# Altium footprint library Passive.PcbLib: 87 footprints (part 5 of 6)
Each footprint in its own frame and in the unit in brackets; x right, y up, seen from the top. Pads: shape width x height; smd on the part's side, far side on the other; paste and mask are expansions set on the pad; w line width, h text height; cw(c..) or ccw(c..) is an arc to the next point about the centre after c.
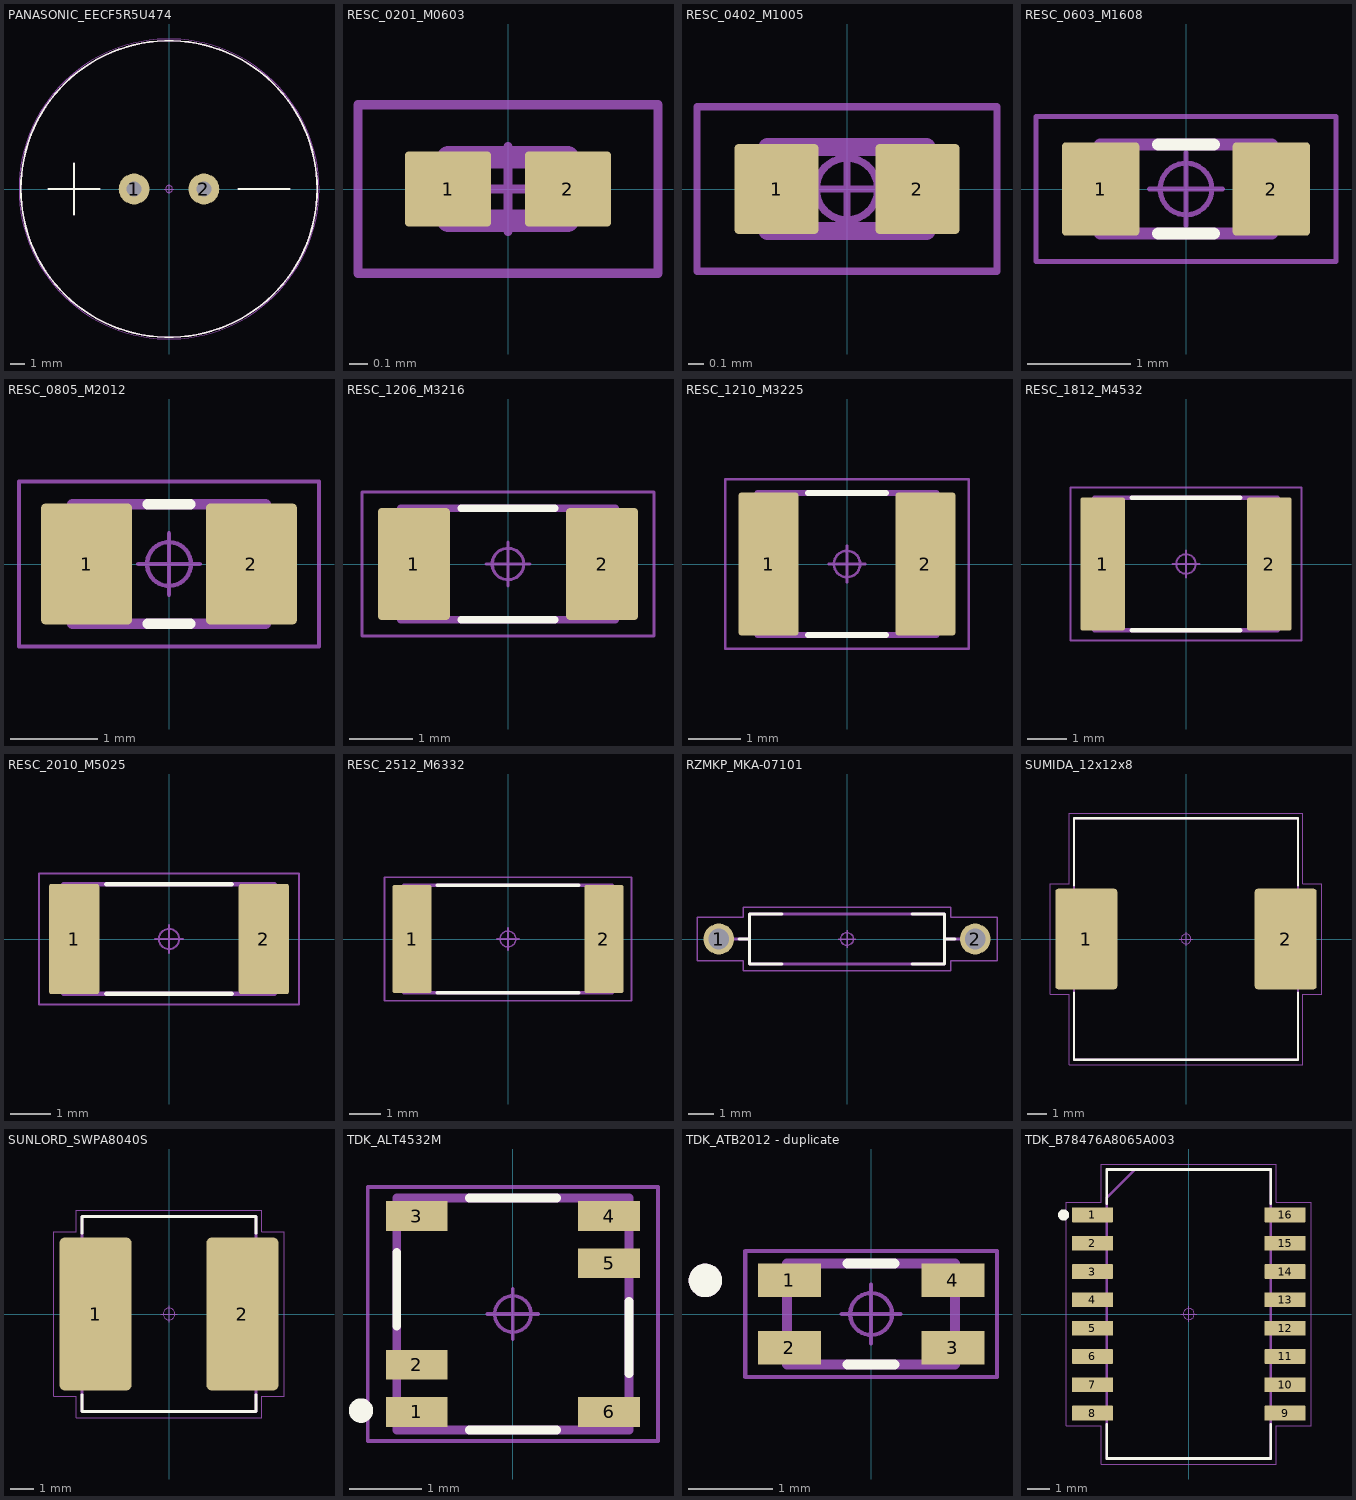
[diagram p4: the footprints below, top view; thin cyan lines are the x and y axes]

## PANASONIC_EECF5R5U474 [mm] "Panasonic Supercap"
pads (2):
  round 2.2 hole 1.1: 1(-2.5,0) 2(2.5,0)
Top Overlay:
  circle w0.12: c0,0 r10.6
  lines w0.12: -8.636,0 -4.953,0 ; -6.794,-1.841 -6.794,1.841 ; 4.953,0 8.636,0
Mechanical 11:
  circle w0.12: c0,0 r10.6
  lines w0.12: -8.636,0 -4.953,0 ; -6.794,-1.841 -6.794,1.841 ; 4.953,0 8.636,0
  text ".Designator" at -4.506,-0.452 h2
Mechanical 15:
  circle w0.05: c0,0 r0.25
  circle w0.05: c0,0 r10.725
  lines w0.05: -0.35,0 0.35,0 ; 0,-0.35 0,0.35
3D body "User Library-Ionistor.STEP": height 8.01, standoff -6, extent -10.75,-10.75 10.76,10.75

## RESC_0201_M0603 [mm] "Resistor, Chip; 0.60 mm L X 0.30 mm W X 0.26 mm H body"
pads (2):
  rrect10% 0.46x0.4 smd: 1(-0.32,0) 2(0.32,0)
Mechanical 11:
  lines w0.12: -0.32,-0.17 -0.32,0.17 0.32,0.17 0.32,-0.17 -0.32,-0.17
  text ".Designator" at -0.911,-0.112 h0.5
Mechanical 15:
  circle w0.05: c0,0 r0.169
  lines w0.05: -0.225,0 0.225,0 ; 0,-0.225 0,0.225 ; -0.8,-0.45 -0.8,0.45 0.8,0.45 0.8,-0.45 -0.8,-0.45
3D body "RESC_0201_M0603.STEP": height 0.26, standoff 0, extent -0.315,-0.165 0.315,0.165

## RESC_0402_M1005 [mm] "Resistor, Chip; 1.00 mm L X 0.50 mm W X 0.40 mm H body"
pads (2):
  rrect10% 0.56x0.6 smd: 1(-0.47,0) 2(0.47,0)
Mechanical 11:
  lines w0.12: -0.53,-0.28 -0.53,0.28 0.53,0.28 0.53,-0.28 -0.53,-0.28
  text ".Designator" at -1.274,-0.156 h0.7
Mechanical 15:
  circle w0.05: c0,0 r0.206
  lines w0.05: -0.275,0 0.275,0 ; 0,-0.275 0,0.275 ; -1,-0.55 -1,0.55 1,0.55 1,-0.55 -1,-0.55
3D body "RESC_0402_M1005.STEP": height 0.4, standoff 0, extent -0.525,-0.275 0.525,0.275

## RESC_0603_M1608 [mm] "Resistor, Chip; 1.60 mm L X 0.80 mm W X 0.45 mm H body"
pads (2):
  rrect10% 0.75x0.9 smd: 1(-0.825,0) 2(0.825,0)
Top Overlay:
  lines w0.12: -0.27,-0.43 0.27,-0.43 ; -0.27,0.43 0.27,0.43
Mechanical 11:
  lines w0.12: -0.83,-0.43 0.83,-0.43 0.83,0.43 -0.83,0.43 -0.83,-0.43
  text ".Designator" at -1.822,-0.223 h1
Mechanical 15:
  circle w0.05: c0,0 r0.25
  lines w0.05: -0.35,0 0.35,0 ; 0,-0.35 0,0.35 ; -1.45,-0.7 1.45,-0.7 1.45,0.7 -1.45,0.7 -1.45,-0.7
3D body "RESC_0603_M1608.STEP": height 0.45, standoff 0, extent -0.825,-0.425 0.825,0.425

## RESC_0805_M2012 [mm] "Resistor, Chip; 2.00 mm L X 1.25 mm W X 0.70 mm H body"
pads (2):
  rrect10% 1.04x1.38 smd: 1(-0.94,0) 2(0.94,0)
Top Overlay:
  lines w0.12: -0.24,-0.68 0.24,-0.68 ; -0.24,0.68 0.24,0.68
Mechanical 11:
  lines w0.12: -1.1,-0.68 -1.1,0.68 1.1,0.68 1.1,-0.68 -1.1,-0.68
  text ".Designator" at -1.822,-0.223 h1
Mechanical 15:
  circle w0.05: c0,0 r0.25
  lines w0.05: -0.35,0 0.35,0 ; 0,-0.35 0,0.35 ; -1.71,-0.94 -1.71,0.94 1.71,0.94 1.71,-0.94 -1.71,-0.94
3D body "RESC_0805_M2012.STEP": height 0.7, standoff 0, extent -1.1,-0.675 1.1,0.675

## RESC_1206_M3216 [mm] "Resistor, Chip; 3.20 mm L X 1.60 mm W X 0.70 mm H body"
pads (2):
  rrect10% 1.14x1.77 smd: 1(-1.49,0) 2(1.49,0)
Top Overlay:
  lines w0.12: -0.74,-0.88 0.74,-0.88 ; -0.74,0.88 0.74,0.88
Mechanical 11:
  lines w0.12: -1.7,-0.88 1.7,-0.88 1.7,0.88 -1.7,0.88 -1.7,-0.88
  text ".Designator" at -1.822,-0.223 h1
Mechanical 15:
  circle w0.05: c0,0 r0.25
  lines w0.05: -0.35,0 0.35,0 ; 0,-0.35 0,0.35 ; -2.31,-1.14 2.31,-1.14 2.31,1.14 -2.31,1.14 -2.31,-1.14
3D body "RESC_1206_M3216.STEP": height 0.7, standoff 0, extent -1.7,-0.875 1.7,0.875

## RESC_1210_M3225 [mm] "Resistor, Chip; 3.20 mm L X 2.50 mm W X 0.70 mm H body"
pads (2):
  rrect10% 1.14x2.72 smd: 1(-1.49,0) 2(1.49,0)
Top Overlay:
  lines w0.12: -0.74,-1.35 0.74,-1.35 ; -0.74,1.35 0.74,1.35
Mechanical 11:
  lines w0.12: -1.7,-1.35 1.7,-1.35 1.7,1.35 -1.7,1.35 -1.7,-1.35
  text ".Designator" at -2.733,-0.335 h1.5
Mechanical 15:
  circle w0.05: c0,0 r0.25
  lines w0.05: -0.35,0 0.35,0 ; 0,-0.35 0,0.35 ; -2.31,-1.61 2.31,-1.61 2.31,1.61 -2.31,1.61 -2.31,-1.61
3D body "RESC_1210_M3225.STEP": height 0.7, standoff 0, extent -1.7,-1.35 1.7,1.35

## RESC_1812_M4532 [mm] "Resistor, Chip; 4.50 mm L X 3.20 mm W X 0.70 mm H body"
pads (2):
  rrect10% 1.14x3.42 smd: 1(-2.14,0) 2(2.14,0)
Top Overlay:
  lines w0.12: -1.39,-1.7 1.39,-1.7 ; -1.39,1.7 1.39,1.7
Mechanical 11:
  lines w0.12: -2.35,-1.7 -2.35,1.7 2.35,1.7 2.35,-1.7 -2.35,-1.7
  text ".Designator" at -3.643,-0.446 h2
Mechanical 15:
  circle w0.05: c0,0 r0.25
  lines w0.05: -0.35,0 0.35,0 ; 0,-0.35 0,0.35 ; -2.96,-1.96 -2.96,1.96 2.96,1.96 2.96,-1.96 -2.96,-1.96
3D body "RESC_1812_M4532.STEP": height 0.7, standoff 0, extent -2.35,-1.7 2.35,1.7

## RESC_2010_M5025 [mm] "Resistor, Chip; 5.00 mm L X 2.50 mm W X 0.70 mm H body"
pads (2):
  rrect10% 1.24x2.72 smd: 1(-2.34,0) 2(2.34,0)
Top Overlay:
  lines w0.12: -1.54,-1.35 1.54,-1.35 ; -1.54,1.35 1.54,1.35
Mechanical 11:
  lines w0.12: -2.6,-1.35 -2.6,1.35 2.6,1.35 2.6,-1.35 -2.6,-1.35
  text ".Designator" at -3.643,-0.446 h2
Mechanical 15:
  circle w0.05: c0,0 r0.25
  lines w0.05: -0.35,0 0.35,0 ; 0,-0.35 0,0.35 ; -3.21,-1.61 -3.21,1.61 3.21,1.61 3.21,-1.61 -3.21,-1.61
3D body "RESC_2010_M5025.STEP": height 0.7, standoff 0, extent -2.6,-1.35 2.6,1.35

## RESC_2512_M6332 [mm] "Resistor, Chip; 6.40 mm L X 3.20 mm W X 0.70 mm H body"
pads (2):
  rrect10% 1.24x3.42 smd: 1(-3.04,0) 2(3.04,0)
Top Overlay:
  lines w0.12: -2.24,-1.7 2.24,-1.7 ; -2.24,1.7 2.24,1.7
Mechanical 11:
  lines w0.12: -3.3,-1.7 -3.3,1.7 3.3,1.7 3.3,-1.7 -3.3,-1.7
  text ".Designator" at -3.643,-0.446 h2
Mechanical 15:
  circle w0.05: c0,0 r0.25
  lines w0.05: -0.35,0 0.35,0 ; 0,-0.35 0,0.35 ; -3.91,-1.96 -3.91,1.96 3.91,1.96 3.91,-1.96 -3.91,-1.96
3D body "RESC_2512_M6332.STEP": height 0.7, standoff 0, extent -3.3,-1.7 3.3,1.7

## RZMKP_MKA-07101 [mm] "REED, Axial; 10.00 mm C X 0.50 mm W 7.60 mm L X 1.95 mm Dia body"
pads (2):
  round 1.2 hole 0.8 paste-2539.97: 1(-5,0) 2(5,0)
Top Overlay:
  lines w0.12: -4.22,0 -3.8,0 ; -2.53,-0.98 -3.8,-0.98 -3.8,0.98 -2.53,0.98 ; 2.53,-0.98 3.8,-0.98 3.8,0.98 2.53,0.98 ; 3.8,0 4.22,0
Mechanical 11:
  lines w0.12: -4.4,0 -3.8,0 ; 3.8,0 4.4,0 ; -3.8,-0.98 3.8,-0.98 3.8,0.98 -3.8,0.98 -3.8,-0.98
  text ".Designator" at -2.253,-0.226 h1
Mechanical 15:
  circle w0.05: c0,0 r0.25
  lines w0.05: -0.35,0 0.35,0 ; 0,-0.35 0,0.35 ; -5.85,-0.85 -4.05,-0.85 -4.05,-1.23 4.05,-1.23 4.05,-0.85 5.85,-0.85 5.85,0.85 4.05,0.85 4.05,1.23 -4.05,1.23 -4.05,0.85 -5.85,0.85 -5.85,-0.85
3D body "RZMKP_MKA-07101.STEP": height 3, standoff -2, extent -5.3,-0.975 5.3,0.975

## SUMIDA_12x12x8 [mm] "Inductor, Molded Body; 12.00 mm L X 12.00 mm W X 8.00 mm H body"
pads (2):
  rrect10% 3.16x5.12 smd: 1(-5.075,0) 2(5.075,0)
Top Overlay:
  lines w0.12: -5.7,-2.74 -5.7,-6.15 5.7,-6.15 5.7,-2.74 ; -5.7,2.74 -5.7,6.15 5.7,6.15 5.7,2.74
Mechanical 11:
  lines w0.12: -5.7,-6.15 -5.7,6.15 5.7,6.15 5.7,-6.15 -5.7,-6.15
  text ".Designator" at -4.506,-0.452 h2
Mechanical 15:
  circle w0.05: c0,0 r0.25
  lines w0.05: -0.35,0 0.35,0 ; 0,-0.35 0,0.35 ; -6.905,-2.81 -6.905,2.81 -5.95,2.81 -5.95,6.4 5.95,6.4 5.95,2.81 6.905,2.81 6.905,-2.81 5.95,-2.81 5.95,-6.4 -5.95,-6.4 -5.95,-2.81 -6.905,-2.81
3D body "SUMIDA_12x12x8.STEP": height 8, standoff 0, extent -6.15,-6.15 6.15,6.15

## SUNLORD_SWPA8040S [mm] "Ferrite Bead, Molded Body; 8.00 mm L X 8.00 mm W X 4.20 mm H body"
pads (2):
  rrect16% 3.07x6.51 smd: 1(-3.12,0) 2(3.12,0)
Top Overlay:
  lines w0.12: -3.7,-3.435 -3.7,-4.15 3.7,-4.15 3.7,-3.435 ; -3.7,3.435 -3.7,4.15 3.7,4.15 3.7,3.435
Mechanical 11:
  lines w0.12: -3.7,-4.15 -3.7,4.15 3.7,4.15 3.7,-4.15 -3.7,-4.15
  text ".Designator" at -2.253,-0.226 h1
Mechanical 15:
  circle w0.05: c0,0 r0.25
  lines w0.05: -0.35,0 0.35,0 ; 0,-0.35 0,0.35 ; -4.905,-3.505 -4.905,3.505 -3.95,3.505 -3.95,4.4 3.95,4.4 3.95,3.505 4.905,3.505 4.905,-3.505 3.95,-3.505 3.95,-4.4 -3.95,-4.4 -3.95,-3.505 -4.905,-3.505
3D body "User Library-SWPA8040.step": height 4.2, standoff 0, extent -4.15,-4.15 4.15,4.15

## TDK_ALT4532M [mm]
pads (6):
  rect 0.85x0.41 smd: 1(-1.325,-1.35) 2(-1.325,-0.7) 3(-1.325,1.35) 4(1.325,1.35) 5(1.325,0.7) 6(1.325,-1.35)
Top Overlay:
  circle w0.254: c-2.094,-1.331 r0.041
  lines w0.12: -1.6,-0.17 -1.6,0.85 ; -0.6,-1.6 0.6,-1.6 ; -0.6,1.6 0.6,1.6 ; 1.6,-0.82 1.6,0.175
Mechanical 11:
  lines w0.12: -1.6,-1.6 1.6,-1.6 1.6,1.6 -1.6,1.6 -1.6,-1.6
  text ".Designator" at -2.253,-0.226 h1
Mechanical 15:
  circle w0.05: c0,0 r0.25
  lines w0.05: -0.35,0 0.35,0 ; 0,-0.35 0,0.35 ; -2,-1.75 2,-1.75 2,1.75 -2,1.75 -2,-1.75
3D body "ALT3232M-151-T001.stp": height 2.66, standoff 0, extent -1.686,-1.665 1.694,1.675

## TDK_ATB2012 - duplicate [mm]
pads (4):
  rect 0.75x0.4 smd: 1(-0.975,0.4) 2(-0.975,-0.4) 3(0.975,-0.4) 4(0.975,0.4)
Top Overlay:
  circle w0.2: c-1.975,0.4 r0.1
  lines w0.12: -0.28,-0.6 0.28,-0.6 ; -0.28,0.6 0.28,0.6
Mechanical 11:
  lines w0.12: -1,-0.6 -1,0.6 1,0.6 1,-0.6 -1,-0.6
  text ".Designator" at -0.902,-0.091 h0.4
Mechanical 13:
  circle w0.2: c-1.975,0.4 r0.1
Mechanical 15:
  circle w0.05: c0,0 r0.25
  lines w0.05: -0.35,0 0.35,0 ; 0,-0.35 0,0.35 ; -1.5,-0.75 1.5,-0.75 1.5,0.75 -1.5,0.75 -1.5,-0.75
3D body "step_temp.STEP": height 1.3, standoff 0, extent -1,-0.6 1,0.6

## TDK_B78476A8065A003 [mm] "Small Outline IC (SOIC), 1.27 mm pitch; 16 pin, 12.70 mm L X 7.11 mm W X 5.85 mm H body"
pads (16):
  rrect10% 1.85x0.66 smd: 1(-4.32,4.445) 2(-4.32,3.175) 3(-4.32,1.905) 4(-4.32,0.635) 5(-4.32,-0.635) 6(-4.32,-1.905) 7(-4.32,-3.175) 8(-4.32,-4.445) 9(4.32,-4.445) 10(4.32,-3.175) 11(4.32,-1.905) 12(4.32,-0.635) 13(4.32,0.635) 14(4.32,1.905) 15(4.32,3.175) 16(4.32,4.445)
Top Overlay:
  circle w0.25: c-5.615,4.445 r0.125
  lines w0.12: -3.68,-4.955 -3.68,-6.48 3.68,-6.48 3.68,-4.955 ; -3.68,4.955 -3.68,6.48 3.68,6.48 3.68,4.955
Mechanical 11:
  lines w0.12: -3.68,-6.48 -3.68,5.21 -2.41,6.48 3.68,6.48 3.68,-6.48 -3.68,-6.48
  text ".Designator" at -4.506,-0.452 h2
Mechanical 15:
  circle w0.05: c0,0 r0.25
  lines w0.05: -0.35,0 0.35,0 ; 0,-0.35 0,0.35 ; -5.495,-5.025 -5.495,5.025 -3.93,5.025 -3.93,6.73 3.93,6.73 3.93,5.025 5.495,5.025 5.495,-5.025 3.93,-5.025 3.93,-6.73 -3.93,-6.73 -3.93,-5.025 -5.495,-5.025
3D body "TDK_B78476A8065A003.STEP": height 5.85, standoff 0, extent -4.89,-6.475 4.89,6.475